# EAGLE library part TG10-DA1NSLF (library digAudio_SNES)
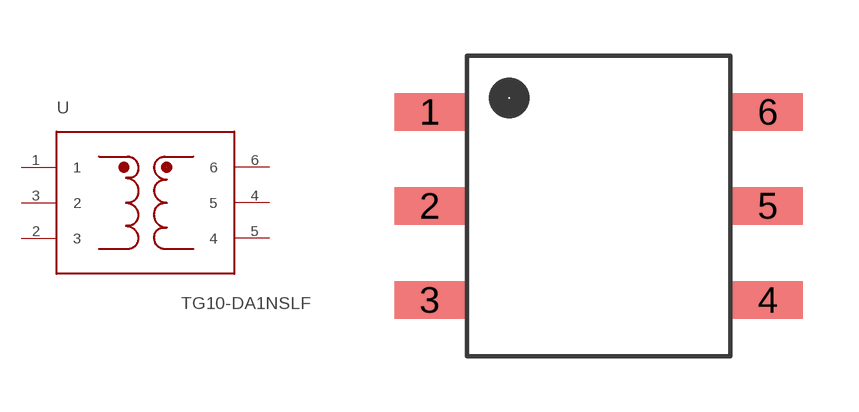
[diagram p2: symbol with the pads of TG10-DA1NSFL; footprint TG10-DA1NSFL]

Designator prefix -

## TG10-DA1NSLF  [TG10-DA1NSFL]
1  1
2  3
3  2
4  5
5  4
6  6

## Footprint TG10-DA1NSFL (pad centres in mm)
smd 1.905 x 1.016: 1 -4.572,2.54; 2 -4.572,0; 3 -4.572,-2.54; 4 4.572,-2.54; 5 4.572,0; 6 4.572,2.54